# Altium footprint library wson_6_p65_200x200x80_l30x25_t170x110.PcbLib: 1 footprints
Each footprint in its own frame and in the unit in brackets; x right, y up, seen from the top. Pads: shape width x height; smd on the part's side, far side on the other; paste and mask are expansions set on the pad; w line width, h text height; cw(c..) or ccw(c..) is an arc to the next point about the centre after c.
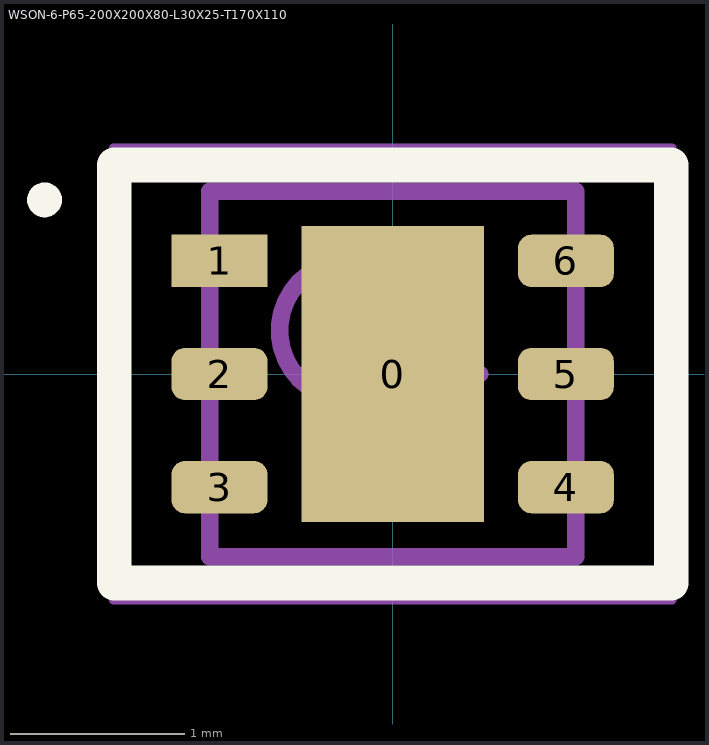
[diagram p0: the footprint, top view; thin cyan lines are the x and y axes]

## WSON-6-P65-200X200X80-L30X25-T170X110 [mm] "SON, 6-Leads, Body 2,00x2,00mm, Pitch 0,65mm, Thermal Pad 1,60x0,89mm, IPC Medium Density"
height 0.8
pads (7):
  rect 1.05x1.7 smd: 0(0,0)
  rect 0.55x0.3 smd: 1(-0.995,0.65)
  rrect50% 0.55x0.3 smd: 2(-0.995,0) 3(-0.995,-0.65) 4(0.995,-0.65) 5(0.995,0) 6(0.995,0.65)
Top Overlay:
  circle w0.1: c-2,1 r0.05
  lines w0.2: -1.05,-1.2 1,-1.2 ; 1,-1.2 -1.6,-1.2 -1.6,1.2 -1.05,1.2 1.05,1.2 1.6,1.2 1.6,-1.2 1,-1.2 ; 1,-1.2 1,-1.2
Top Comment:
  text ".Comment" at 1,2 h1.2
Top Designator:
  text ".Designator" at -0.5,2 h1.2
Top Component Outline:
  circle w0.1: c-0.25,0.25 r0.4
  lines w0.1: -1.05,-1.05 -1.05,1.05 1.05,1.05 1.05,-1.05 -1.05,-1.05
Top Courtyard (Mech15):
  lines w0.05: -1.605,-1.3 -1.605,1.3 1.605,1.3 1.605,-1.3 -1.605,-1.3
  lines w0.1: -0.5,0 0.5,0 ; 0,-0.5 0,0.5
3D body "User Library-wson6-drv.STEP": height 0.8, standoff 0, extent -1.01,-1 1.01,1